# Altium footprint library 0805 LED.PcbLib: 1 footprints
Each footprint in its own frame and in the unit in brackets; x right, y up, seen from the top. Pads: shape width x height; smd on the part's side, far side on the other; paste and mask are expansions set on the pad; w line width, h text height; cw(c..) or ccw(c..) is an arc to the next point about the centre after c.
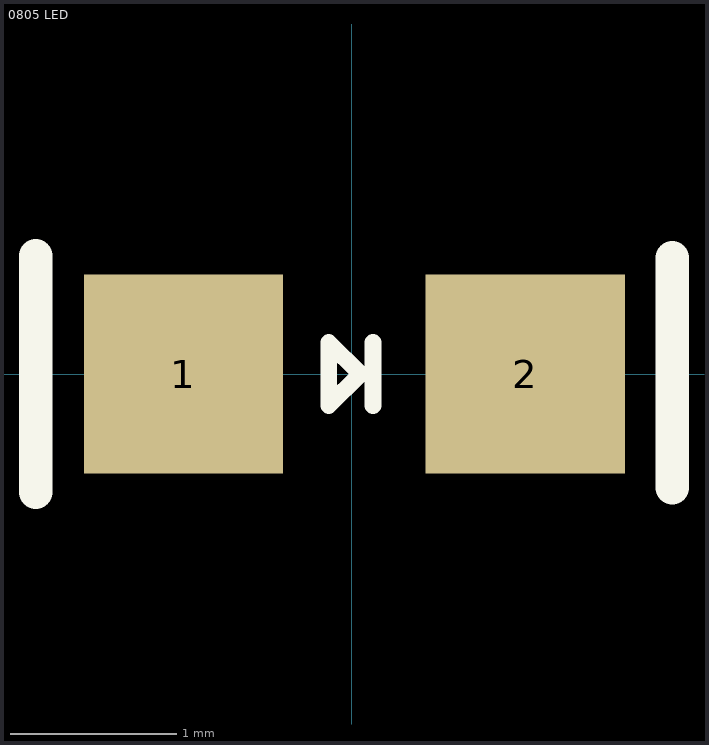
[diagram p0: the footprint, top view; thin cyan lines are the x and y axes]

## 0805 LED [mm]
pads (2):
  rect 1.2x1.2 smd: 1(-1.016,0) 2(1.045,0)
Top Overlay:
  lines w0.102: 0.127,-0.191 0.127,0.191 ; -0.14,-0.191 0.051,0 -0.14,0.191 -0.14,-0.191
  lines w0.203: -1.905,-0.711 -1.905,0.711 ; 1.93,-0.686 1.93,0.699
3D body "LED 0805 Base RED.STEP": height 0.4, standoff 0, extent -1,-0.625 1,0.625